# Altium footprint library RLC.PcbLib: 151 footprints (part 4 of 10)
Each footprint in its own frame and in the unit in brackets; x right, y up, seen from the top. Pads: shape width x height; smd on the part's side, far side on the other; paste and mask are expansions set on the pad; w line width, h text height; cw(c..) or ccw(c..) is an arc to the next point about the centre after c.
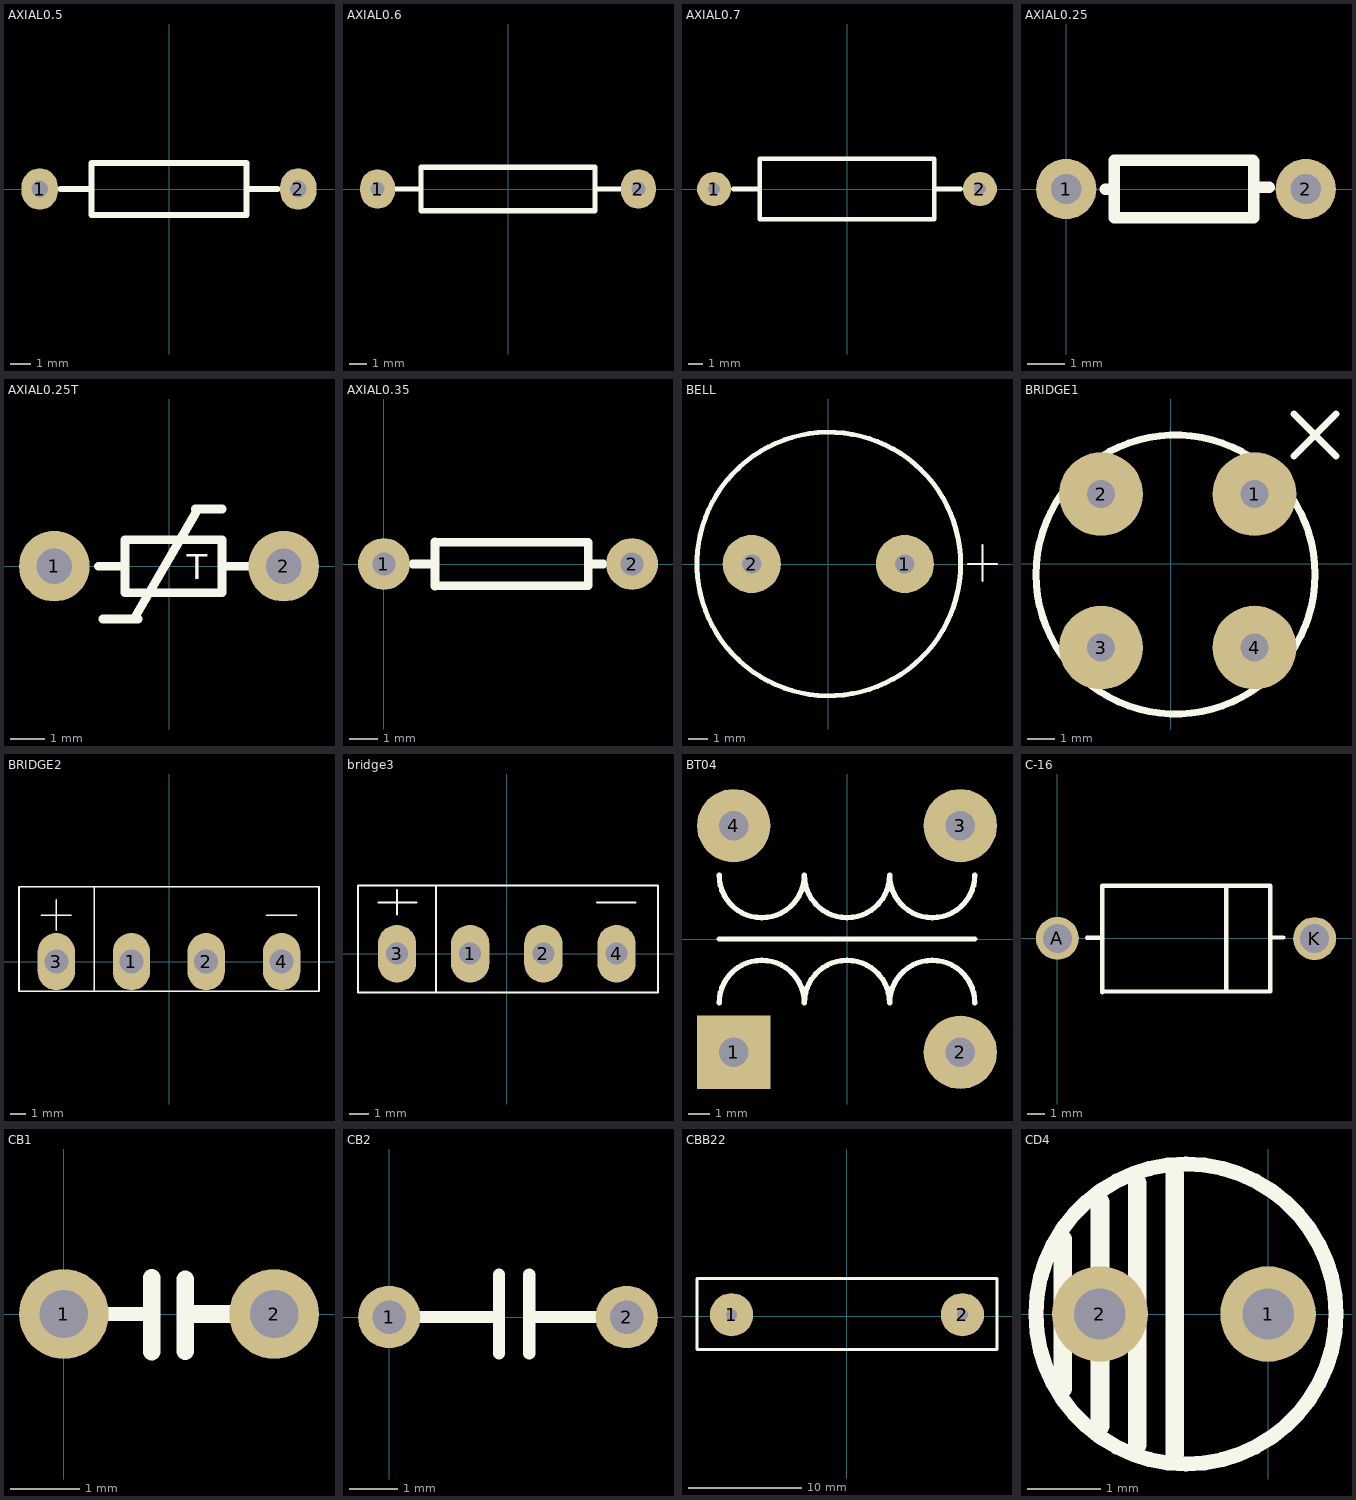
[diagram p3: the footprints below, top view; thin cyan lines are the x and y axes]

## AXIAL0.5 [mil]
pads (2):
  oval 70x80 hole 32: 1(-250,0) 2(250,0)
Top Overlay:
  lines w12: -210,0 -150,0 ; 150,0 210,0 ; -150,-50 -150,50 150,50 150,-50 -150,-50

## AXIAL0.6 [mil]
pads (2):
  oval 80x90 hole 32: 1(-300,0) 2(300,0)
Top Overlay:
  lines w12: -260,0 -200,0 ; 200,0 260,0 ; -200,-50 -200,50 200,50 200,-50 -200,-50

## AXIAL0.7 [mil]
pads (2):
  round 90 hole 32: 1(-350,0) 2(350,0)
Top Overlay:
  lines w12: -300,0 -230,0 ; 230,0 300,0 ; -230,-80 230,-80 230,80 -230,80 -230,-80

## AXIAL0.25 [mm]
pads (2):
  round 1.6 hole 0.8: 1(0,0) 2(6.35,0)
Top Overlay:
  lines w0.3: 1.27,-0.762 4.974,-0.762 4.974,0.738 4.95,0.762 1.27,0.762
  lines w0.305: 1.041,0 1.27,0 ; 1.27,-0.762 1.27,0.762 ; 5.148,0.042 5.377,0.042

## AXIAL0.25T [mil]
pads (2):
  round 80 hole 40: 1(-130,0) 2(130,0)
Top Overlay:
  lines w10: -80,0 -50,0 ; -75,-60 -35,-60 ; -40,-60 30,60 ; 30,65 60,65 ; 60,0 90,0 ; -50,-30 -50,30 60,30 60,-30 -50,-30
  text "T" at 20,-15 h28

## AXIAL0.35 [mm]
pads (2):
  round 1.8 hole 0.8: 1(0,0) 2(8.636,0)
Top Overlay:
  lines w0.3: 1.778,-0.762 1.778,0.762 7.112,0.762 7.112,0 7.112,-0.762 1.778,-0.762
  lines w0.305: 1.016,0 1.778,0 ; 1.778,-0.762 1.778,0.762 ; 7.112,0 7.62,0

## BELL [mil]
pads (2):
  round 120 hole 40: 1(158,0) 2(-158,0)
Top Overlay:
  circle w10: c1.11,0 r271.89
  lines w4: 288,0 313,0 ; 302,0 348,0 ; 318,-35 318,39

## BRIDGE1 [mil]
pads (4):
  round 120 hole 40: 1(120,100) 2(-100,100) 3(-100,-120) 4(120,-120)
Top Overlay:
  circle w10: c6.8,-15.2 r200
  lines w10: 176.8,154.8 236.8,214.8 ; 176.8,214.8 236.8,154.8

## BRIDGE2 [mil]
pads (4):
  oval 98x150 hole 63: 1(-98.5,0) 2(97.5,0) 3(-295.5,0) 4(295.5,0)
Top Overlay:
  lines w4: -334.5,122 -256.5,122 ; -295.5,83 -295.5,162 ; -196.5,-78 -196.5,197 ; 255.5,122 334.5,122 ; -393.5,-78 -393.5,197 393.5,197 393.5,-78 -393.5,-78

## bridge3 [mm]
pads (4):
  oval 2x3 hole 1.143: 1(-1.905,0) 2(1.905,0) 3(-5.715,0) 4(5.715,0)
Top Overlay:
  lines w0.102: -6.68,2.667 -4.699,2.667 ; -5.715,2.032 -5.715,3.302 ; -3.683,-2.032 -3.683,3.556 ; 4.699,2.667 6.706,2.667 ; -7.747,-2.032 -7.747,3.556 7.874,3.556 7.874,-2.032 -7.747,-2.032

## BT04 [mm]
pads (4):
  rect 3.5x3.5 hole 1.4: 1(-5.4,-5.4)
  round 3.5 hole 1.4: 2(5.4,-5.4) 3(5.4,5.4) 4(-5.4,5.4)
Top Overlay:
  lines w0.254: -6.096,-3.048 cw(c-4.064,-3.048) -2.032,-3.048 cw(c0,-3.048) 2.032,-3.048 cw(c4.064,-3.048) 6.096,-3.048 ; -6.096,0 6.096,0 ; -6.096,3.048 ccw(c-4.064,3.048) -2.032,3.048 ccw(c0,3.048) 2.032,3.048 ccw(c4.064,3.048) 6.096,3.048

## C-16 [mm]
pads (2):
  round 2.5 hole 1.7: A(0,0) K(15,-0.013)
Top Overlay:
  lines w0.254: 1.727,0.025 2.616,0.025 ; 2.616,-3.15 2.616,3.073 12.421,3.073 12.421,-3.099 2.667,-3.099 ; 9.855,-3.099 9.855,3.073 ; 12.421,0.051 13.183,0.051

## CB1 [mm]
pads (2):
  round 1.3 hole 0.7: 1(0,0) 2(3.048,0)
Top Overlay:
  lines w0.203: 0,0 1.143,0
  lines w0.254: 1.271,0.522 1.272,-0.546 ; 1.757,-0.54 1.757,0.504 ; 1.778,0 3.048,0

## CB2 [mm]
pads (2):
  round 1.3 hole 0.7: 1(0,0) 2(4.953,0)
Top Overlay:
  lines w0.254: 0.635,0 1.27,0 2.286,0 ; 2.286,-0.762 2.286,0.889 ; 2.921,-0.762 2.921,0.889 ; 3.048,0 4.953,0

## CBB22 [mil]
pads (2):
  round 150 hole 39: 1(-400,5) 2(400,5)
Top Overlay:
  lines w10: -520,-115 -520,130 520,130 520,-115 -520,-115

## CD4 [mm]
pads (2):
  round 1.3 hole 0.7: 1(0,0) 2(-2.286,0)
Top Overlay:
  circle w0.203: c-1.116,0 r2.04
  lines w0.254: -2.794,-1.016 -2.794,1.016 ; -2.286,-1.524 -2.286,1.524 ; -1.778,-1.778 -1.778,1.778 ; -1.27,-1.905 -1.27,1.905